# EAGLE library part CY8CKIT-059_PROG (library CYKIT)
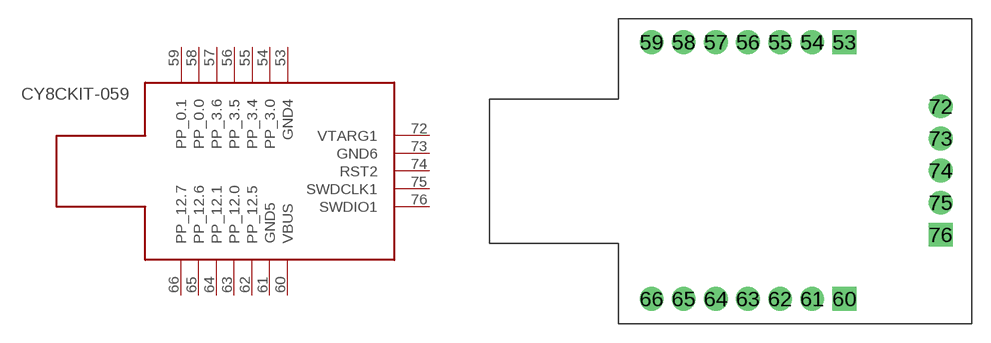
[diagram p1: symbol with the pads of CY8CKIT-059_PROG; footprint CY8CKIT-059_PROG]

Designator prefix -

## CY8CKIT-059_PROG  [CY8CKIT-059_PROG]
53  GND4
54  PP_3.0
55  PP_3.4
56  PP_3.5
57  PP_3.6
58  PP_0.0
59  PP_0.1
60  VBUS
61  GND5
62  PP_12.5
63  PP_12.0
64  PP_12.1
65  PP_12.6
66  PP_12.7
72  VTARG1
73  GND6
74  RST2
75  SWDCLK1
76  SWDIO1

## Footprint CY8CKIT-059_PROG (pad centres in mm)
drill 1.016 pad 1.876 square: 53 5.18,9.59; 60 5.18,-10.73; 76 12.8,-5.65
drill 1.016 pad 1.876: 54 2.64,9.59; 55 0.1,9.59; 56 -2.44,9.59; 57 -4.98,9.59; 58 -7.52,9.59; 59 -10.06,9.59; 61 2.64,-10.73; 62 0.1,-10.73; 63 -2.44,-10.73; 64 -4.98,-10.73; 65 -7.52,-10.73; 66 -10.06,-10.73; 72 12.8,4.51; 73 12.8,1.97; 74 12.8,-0.57; 75 12.8,-3.11